# Altium schematic symbol library brake.SchLib: 3 symbols
Pins are listed as number, name and electrical type; pins without a type are passive.

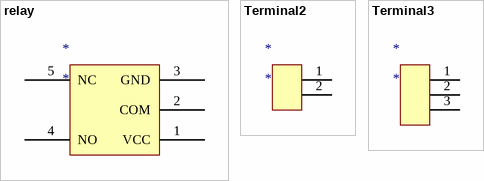
[diagram p0: symbols relay to Terminal3]

## relay
designator *
footprint relay
pins: 1 VCC, 2 COM, 3 GND, 4 NO, 5 NC

## Terminal2
designator *
footprint terminal2
pins: 1 6, 2 7

## Terminal3
designator *
footprint Terminal3
pins: 1 6, 2 7, 3 8